# Altium footprint library CAP-TH_L4.0-W2.5-P5.00-D1.0.PcbLib: 1 footprints
Each footprint in its own frame and in the unit in brackets; x right, y up, seen from the top. Pads: shape width x height; smd on the part's side, far side on the other; paste and mask are expansions set on the pad; w line width, h text height; cw(c..) or ccw(c..) is an arc to the next point about the centre after c.
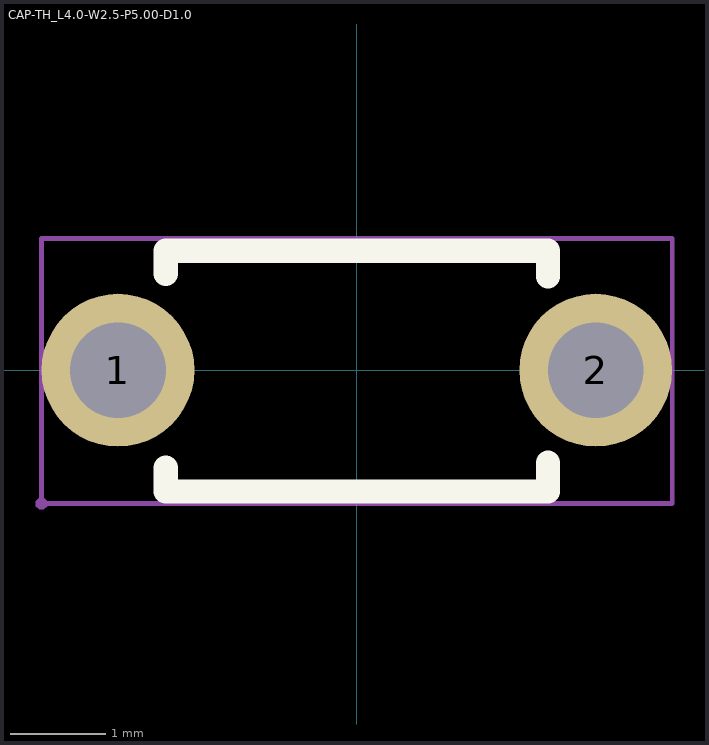
[diagram p0: the footprint, top view; thin cyan lines are the x and y axes]

## CAP-TH_L4.0-W2.5-P5.00-D1.0 [mm]
pads (2):
  round 1.6 hole 1: 1(-2.5,0) 2(2.5,0)
Top Overlay:
  lines w0.254: -2,-1.02 -2,-1.27 2,-1.27 2,-0.97 ; -2,1.01 -2,1.25 2,1.25 2,0.98
Mechanical 15:
  region: -3.24,-1.397 -3.24,-1.422 -3.275,-1.457 -3.325,-1.457 -3.36,-1.422 -3.36,-1.397 -3.36,-1.372 -3.325,-1.337 -3.275,-1.337 -3.24,-1.372 -3.24,-1.397
  region: 2.9,0 2.9,-0.08 2.839,-0.227 2.727,-0.339 2.58,-0.4 2.42,-0.4 2.273,-0.339 2.161,-0.227 2.1,-0.08 2.1,0 2.1,0.08 2.161,0.227 2.273,0.339 2.42,0.4 2.58,0.4 2.727,0.339 2.839,0.227 2.9,0.08 2.9,0
  region: -2.1,0 -2.1,-0.08 -2.161,-0.227 -2.273,-0.339 -2.42,-0.4 -2.58,-0.4 -2.727,-0.339 -2.839,-0.227 -2.9,-0.08 -2.9,0 -2.9,0.08 -2.839,0.227 -2.727,0.339 -2.58,0.4 -2.42,0.4 -2.273,0.339 -2.161,0.227 -2.1,0.08 -2.1,0
  lines w0.051: -3.3,-1.397 -3.3,1.377 3.3,1.377 3.3,-1.397 -3.3,-1.397